# EAGLE library part FH12-24S-0.5SH(55) (library water-lib)
HIROSE(HRS) - FH12-24S-0.5SH(55) - SOCKET FFC/FPC, ZIF, 0.5MM, 24WAY Source: Datasheet <https://www.hirose.com/product/en/download_file/key_name/FH12-18S-0.5SH(55)/category/Drawing (2D)/doc_file_id/75611/?file_category_id=6&item_id=05860530155&is_series=>
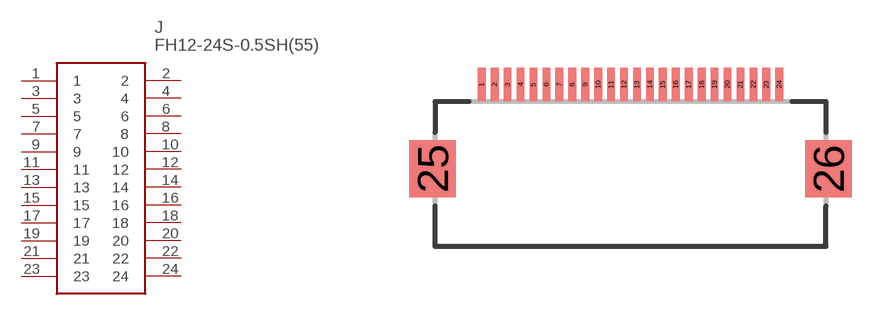
[diagram p2: symbol with the pads of FH12-24S-0.5SH(55); footprint FH12-24S-0.5SH(55)]

Designator prefix J

## FH12-24S-0.5SH(55) (DESCRIPTION: HIROSE(HRS) - FH12-24S-0.5SH(55) - SOCKET FFC/FPC, ZIF, 0.5MM, 24WAY; HEIGHT: mm; MANUFACTURER_NAME: Hirose; MANUFACTURER_PART_NUMBER: FH12-24S-0.5SH(55); MOUSER_PART_NUMBER: 798-FH12-24S-0.5SH55; MOUSER_PRICE-STOCK: https://www.mouser.com/Search/Refine.aspx?Keyword=798-FH12-24S-0.5SH55; RS_PART_NUMBER: 7388827P; RS_PRICE-STOCK: http://uk.rs-online.com/web/p/products/7388827P)  [FH12-24S-0.5SH(55)]
1  1
2  2
3  3
4  4
5  5
6  6
7  7
8  8
9  9
10  10
11  11
12  12
13  13
14  14
15  15
16  16
17  17
18  18
19  19
20  20
21  21
22  22
23  23
24  24

## Footprint FH12-24S-0.5SH(55) (pad centres in mm)
FH12-24S-0.5SH(55)
smd 0.3 x 1.3: 1 -5.75,0.65; 2 -5.25,0.65; 3 -4.75,0.65; 4 -4.25,0.65; 5 -3.75,0.65; 6 -3.25,0.65; 7 -2.75,0.65; 8 -2.25,0.65; 9 -1.75,0.65; 10 -1.25,0.65; 11 -0.75,0.65; 12 -0.25,0.65; 13 0.25,0.65; 14 0.75,0.65; 15 1.25,0.65; 16 1.75,0.65; 17 2.25,0.65; 18 2.75,0.65; 19 3.25,0.65; 20 3.75,0.65; 21 4.25,0.65; 22 4.75,0.65; 23 5.25,0.65; 24 5.75,0.65
smd 1.8 x 2.2: 25 -7.65,-2.6; 26 7.65,-2.6